# Altium schematic symbol library issi-sram.SchLib: 7 symbols
Pins are listed as number, name and electrical type; pins without a type are passive.

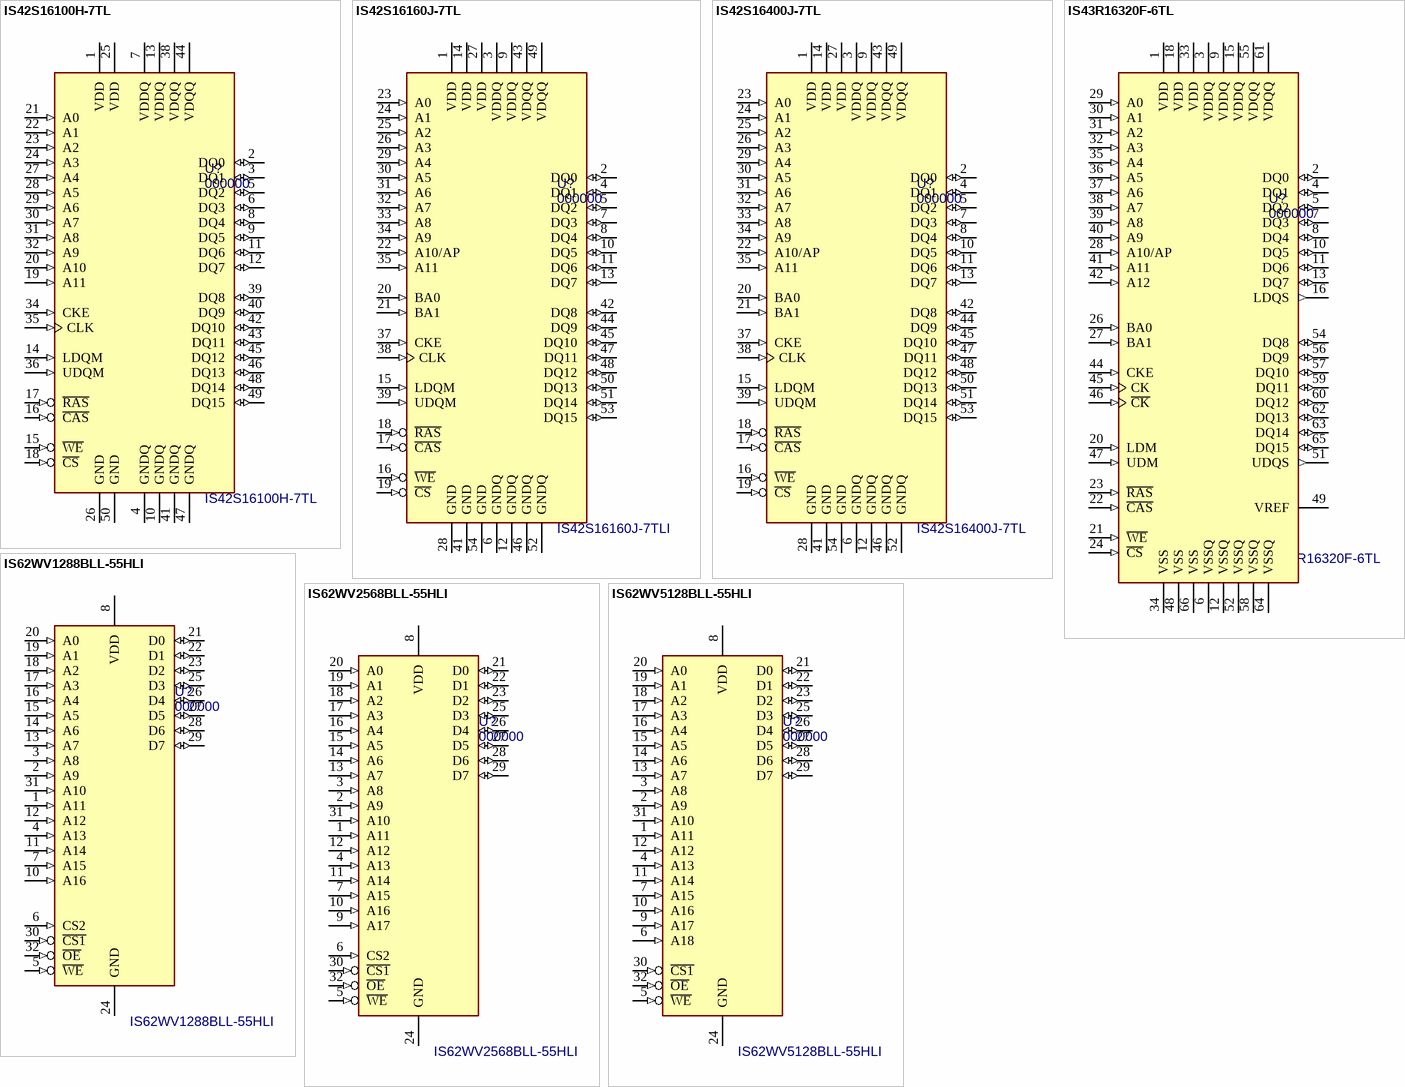
[diagram p0: symbols IS42S16100H-7TL to IS62WV5128BLL-55HLI]

## IS42S16100H-7TL
designator U?, comment 000000  value IS42S16100H-7TL
16Mbit (1M x16) 143MHz SDRAM; MF: ISSI; PN: 000000; Package: 50-TSOP II; ExtraInfo: *
footprint TSOP-50-II (TSOP, 50-Leads, Body 21.1x10.3mm (max), Pitch 0.80mm, IPC Medium Density)
pins: 1 VDD (power), 2 DQ0 (io), 3 DQ1 (io), 4 GNDQ (power), 5 DQ2 (io), 6 DQ3 (io), 7 VDDQ (power), 8 DQ4 (io), 9 DQ5 (io), 10 GNDQ (power), 11 DQ6 (io), 12 DQ7 (io), 13 VDDQ (power), 14 LDQM (in), 15 ~{WE} (in), 16 ~{CAS} (in), 17 ~{RAS} (in), 18 ~{CS} (in), 19 A11 (in), 20 A10 (in), 21 A0 (in), 22 A1 (in), 23 A2 (in), 24 A3 (in), 25 VDD (power), 26 GND (power), 27 A4 (in), 28 A5 (in), 29 A6 (in), 30 A7 (in), 31 A8 (in), 32 A9 (in), 34 CKE (in), 35 CLK (in), 36 UDQM (in), 38 VDQQ (power), 39 DQ8 (io), 40 DQ9 (io), 41 GNDQ (power), 42 DQ10 (io), 43 DQ11 (io), 44 VDQQ (power), 45 DQ12 (io), 46 DQ13 (io), 47 GNDQ (power), 48 DQ14 (io), 49 DQ15 (io), 50 GND (power)

## IS42S16160J-7TL
designator U?, comment 000000  value IS42S16160J-7TLI
256Mbit (16M x16) 143MHz SDRAM; MF: ISSI; PN: 000000; Package: 54-TSOP II; ExtraInfo: *
footprint TSOP-54-II (TSOP, 54-Leads, Body 22.4x10.3mm (max), Pitch 0.80mm, IPC Medium Density)
pins: 1 VDD (power), 2 DQ0 (io), 3 VDDQ (power), 4 DQ1 (io), 5 DQ2 (io), 6 GNDQ (power), 7 DQ3 (io), 8 DQ4 (io), 9 VDDQ (power), 10 DQ5 (io), 11 DQ6 (io), 12 GNDQ (power), 13 DQ7 (io), 14 VDD (power), 15 LDQM (in), 16 ~{WE} (in), 17 ~{CAS} (in), 18 ~{RAS} (in), 19 ~{CS} (in), 20 BA0 (in), 21 BA1 (in), 22 A10/AP (in), 23 A0 (in), 24 A1 (in), 25 A2 (in), 26 A3 (in), 27 VDD (power), 28 GND (power), 29 A4 (in), 30 A5 (in), 31 A6 (in), 32 A7 (in), 33 A8 (in), 34 A9 (in), 35 A11 (in), 37 CKE (in), 38 CLK (in), 39 UDQM (in), 41 GND (power), 42 DQ8 (io), 43 VDQQ (power), 44 DQ9 (io), 45 DQ10 (io), 46 GNDQ (power), 47 DQ11 (io), 48 DQ12 (io), 49 VDQQ (power), 50 DQ13 (io), 51 DQ14 (io), 52 GNDQ (power), 53 DQ15 (io), 54 GND (power)

## IS42S16400J-7TL
designator U?, comment 000000  value IS42S16400J-7TL
64Mbit (4M x16) 143MHz SDRAM; MF: ISSI; PN: 000000; Package: 54-TSOP II; ExtraInfo: *
footprint TSOP-54-II (TSOP, 54-Leads, Body 22.4x10.3mm (max), Pitch 0.80mm, IPC Medium Density)
pins: 1 VDD (power), 2 DQ0 (io), 3 VDDQ (power), 4 DQ1 (io), 5 DQ2 (io), 6 GNDQ (power), 7 DQ3 (io), 8 DQ4 (io), 9 VDDQ (power), 10 DQ5 (io), 11 DQ6 (io), 12 GNDQ (power), 13 DQ7 (io), 14 VDD (power), 15 LDQM (in), 16 ~{WE} (in), 17 ~{CAS} (in), 18 ~{RAS} (in), 19 ~{CS} (in), 20 BA0 (in), 21 BA1 (in), 22 A10/AP (in), 23 A0 (in), 24 A1 (in), 25 A2 (in), 26 A3 (in), 27 VDD (power), 28 GND (power), 29 A4 (in), 30 A5 (in), 31 A6 (in), 32 A7 (in), 33 A8 (in), 34 A9 (in), 35 A11 (in), 37 CKE (in), 38 CLK (in), 39 UDQM (in), 41 GND (power), 42 DQ8 (io), 43 VDQQ (power), 44 DQ9 (io), 45 DQ10 (io), 46 GNDQ (power), 47 DQ11 (io), 48 DQ12 (io), 49 VDQQ (power), 50 DQ13 (io), 51 DQ14 (io), 52 GNDQ (power), 53 DQ15 (io), 54 GND (power)

## IS43R16320F-6TL
designator U?, comment 000000  value IS43R16320F-6TL
512Mbit (64M x16) 167MHz DDR SDRAM; MF: ISSI; PN: 000000; Package: 66-TSOP II; ExtraInfo: *
footprint TSOP-66-II (TSOP, 66-Leads, Body 22.4x10.3mm (max), Pitch 0.65mm, IPC Medium Density)
pins: 1 VDD (power), 2 DQ0 (io), 3 VDDQ (power), 4 DQ1 (io), 5 DQ2 (io), 6 VSSQ (power), 7 DQ3 (io), 8 DQ4 (io), 9 VDDQ (power), 10 DQ5 (io), 11 DQ6 (io), 12 VSSQ (power), 13 DQ7 (io), 15 VDDQ (power), 16 LDQS (out), 18 VDD (power), 20 LDM (in), 21 ~{WE} (in), 22 ~{CAS} (in), 23 ~{RAS} (in), 24 ~{CS} (in), 26 BA0 (in), 27 BA1 (in), 28 A10/AP (in), 29 A0 (in), 30 A1 (in), 31 A2 (in), 32 A3 (in), 33 VDD (power), 34 VSS (power), 35 A4 (in), 36 A5 (in), 37 A6 (in), 38 A7 (in), 39 A8 (in), 40 A9 (in), 41 A11 (in), 42 A12 (in), 44 CKE (in), 45 CK (in), 46 ~{CK} (in), 47 UDM (in), 48 VSS (power), 49 VREF (power), 51 UDQS (out), 52 VSSQ (power), 54 DQ8 (io), 55 VDQQ (power), 56 DQ9 (io), 57 DQ10 (io), 58 VSSQ (power), 59 DQ11 (io), 60 DQ12 (io), 61 VDQQ (power), 62 DQ13 (io), 63 DQ14 (io), 64 VSSQ (power), 65 DQ15 (io), 66 VSS (power)

## IS62WV1288BLL-55HLI
designator U?, comment 000000  value IS62WV1288BLL-55HLI
128K x 8 Low Power CMOS Static RAM; MF: ISSI; PN: 000000; Package: 32-STSOP; ExtraInfo: *
footprint STSOP-32 (TSSOP, 32-Leads, Body 8.1x18.5mm (max), Pitch 0.50mm, IPC Medium Density)
pins: 1 A11 (in), 2 A9 (in), 3 A8 (in), 4 A13 (in), 5 ~{WE} (in), 6 CS2 (in), 7 A15 (in), 8 VDD (power), 10 A16 (in), 11 A14 (in), 12 A12 (in), 13 A7 (in), 14 A6 (in), 15 A5 (in), 16 A4 (in), 17 A3 (in), 18 A2 (in), 19 A1 (in), 20 A0 (in), 21 D0 (io), 22 D1 (io), 23 D2 (io), 24 GND (power), 25 D3 (io), 26 D4 (io), 27 D5 (io), 28 D6 (io), 29 D7 (io), 30 ~{CS1} (in), 31 A10 (in), 32 ~{OE} (in)

## IS62WV2568BLL-55HLI
designator U?, comment 000000  value IS62WV2568BLL-55HLI
256K x 8 Low Power CMOS Static RAM; MF: ISSI; PN: 000000; Package: 32-STSOP; ExtraInfo: *
footprint STSOP-32 (TSSOP, 32-Leads, Body 8.1x18.5mm (max), Pitch 0.50mm, IPC Medium Density)
pins: 1 A11 (in), 2 A9 (in), 3 A8 (in), 4 A13 (in), 5 ~{WE} (in), 6 CS2 (in), 7 A15 (in), 8 VDD (power), 9 A17 (in), 10 A16 (in), 11 A14 (in), 12 A12 (in), 13 A7 (in), 14 A6 (in), 15 A5 (in), 16 A4 (in), 17 A3 (in), 18 A2 (in), 19 A1 (in), 20 A0 (in), 21 D0 (io), 22 D1 (io), 23 D2 (io), 24 GND (power), 25 D3 (io), 26 D4 (io), 27 D5 (io), 28 D6 (io), 29 D7 (io), 30 ~{CS1} (in), 31 A10 (in), 32 ~{OE} (in)

## IS62WV5128BLL-55HLI
designator U?, comment 000000  value IS62WV5128BLL-55HLI
512K x 8 Low Power CMOS Static RAM; MF: ISSI; PN: 000000; Package: 32-STSOP; ExtraInfo: *
footprint STSOP-32 (TSSOP, 32-Leads, Body 8.1x18.5mm (max), Pitch 0.50mm, IPC Medium Density)
pins: 1 A11 (in), 2 A9 (in), 3 A8 (in), 4 A13 (in), 5 ~{WE} (in), 6 A18 (in), 7 A15 (in), 8 VDD (power), 9 A17 (in), 10 A16 (in), 11 A14 (in), 12 A12 (in), 13 A7 (in), 14 A6 (in), 15 A5 (in), 16 A4 (in), 17 A3 (in), 18 A2 (in), 19 A1 (in), 20 A0 (in), 21 D0 (io), 22 D1 (io), 23 D2 (io), 24 GND (power), 25 D3 (io), 26 D4 (io), 27 D5 (io), 28 D6 (io), 29 D7 (io), 30 ~{CS1} (in), 31 A10 (in), 32 ~{OE} (in)